# EAGLE library part DSPIC33FJ64GP802 (library FaBo-MPU)
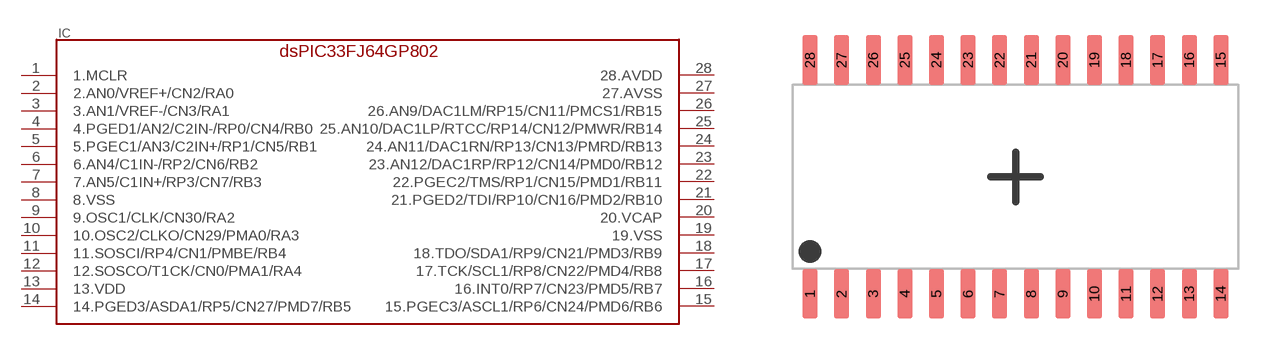
[diagram p7: symbol with the pads of SOIC_W; footprint SOIC_W]

Designator prefix IC

## DSPIC33FJ64GP802  [SOIC_W]
1  1.MCLR
2  2.AN0/VREF+/CN2/RA0
3  3.AN1/VREF-/CN3/RA1
4  4.PGED1/AN2/C2IN-/RP0/CN4/RB0
5  5.PGEC1/AN3/C2IN+/RP1/CN5/RB1
6  6.AN4/C1IN-/RP2/CN6/RB2
7  7.AN5/C1IN+/RP3/CN7/RB3
8  8.VSS
9  9.OSC1/CLK/CN30/RA2
10  10.OSC2/CLKO/CN29/PMA0/RA3
11  11.SOSCI/RP4/CN1/PMBE/RB4
12  12.SOSCO/T1CK/CN0/PMA1/RA4
13  13.VDD
14  14.PGED3/ASDA1/RP5/CN27/PMD7/RB5
15  15.PGEC3/ASCL1/RP6/CN24/PMD6/RB6
16  16.INT0/RP7/CN23/PMD5/RB7
17  17.TCK/SCL1/RP8/CN22/PMD4/RB8
18  18.TDO/SDA1/RP9/CN21/PMD3/RB9
19  19.VSS
20  20.VCAP
21  21.PGED2/TDI/RP10/CN16/PMD2/RB10
22  22.PGEC2/TMS/RP1/CN15/PMD1/RB11
23  23.AN12/DAC1RP/RP12/CN14/PMD0/RB12
24  24.AN11/DAC1RN/RP13/CN13/PMRD/RB13
25  25.AN10/DAC1LP/RTCC/RP14/CN12/PMWR/RB14
26  26.AN9/DAC1LM/RP15/CN11/PMCS1/RB15
27  27.AVSS
28  28.AVDD

## Footprint SOIC_W (pad centres in mm)
smd 0.6 x 2: 1 -8.255,-4.7; 2 -6.985,-4.7; 3 -5.715,-4.7; 4 -4.445,-4.7; 5 -3.175,-4.7; 6 -1.905,-4.7; 7 -0.635,-4.7; 8 0.635,-4.7; 9 1.905,-4.7; 10 3.175,-4.7; 11 4.445,-4.7; 12 5.715,-4.7; 13 6.985,-4.7; 14 8.255,-4.7; 15 8.255,4.7; 16 6.985,4.7; 17 5.715,4.7; 18 4.445,4.7; 19 3.175,4.7; 20 1.905,4.7; 21 0.635,4.7; 22 -0.635,4.7; 23 -1.905,4.7; 24 -3.175,4.7; 25 -4.445,4.7; 26 -5.715,4.7; 27 -6.985,4.7; 28 -8.255,4.7